# EAGLE library part DPDT_DIP_SMD (library UPenn)
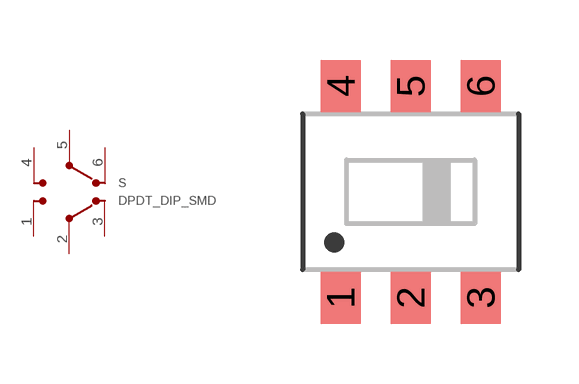
[diagram p4: symbol with the pads of DPDT_DIP_SMD; footprint DPDT_DIP_SMD]

Designator prefix S

## DPDT_DIP_SMD  [DPDT_DIP_SMD]
1  <1
2  <2
3  <3
4  4>
5  5>
6  6>

## Footprint DPDT_DIP_SMD (pad centres in mm)
Found here: http://www.digikey.com/product-detail/en/CAS-220TB/CAS220GCT-ND/341727
smd 1 x 1.3: 1 -1.75,-2.65; 2 0,-2.65; 3 1.75,-2.65; 4 -1.75,2.65; 5 0,2.65; 6 1.75,2.65